# Altium schematic symbol library Tiresias_active.SchLib: 11 symbols
Pins are listed as number, name and electrical type; pins without a type are passive.

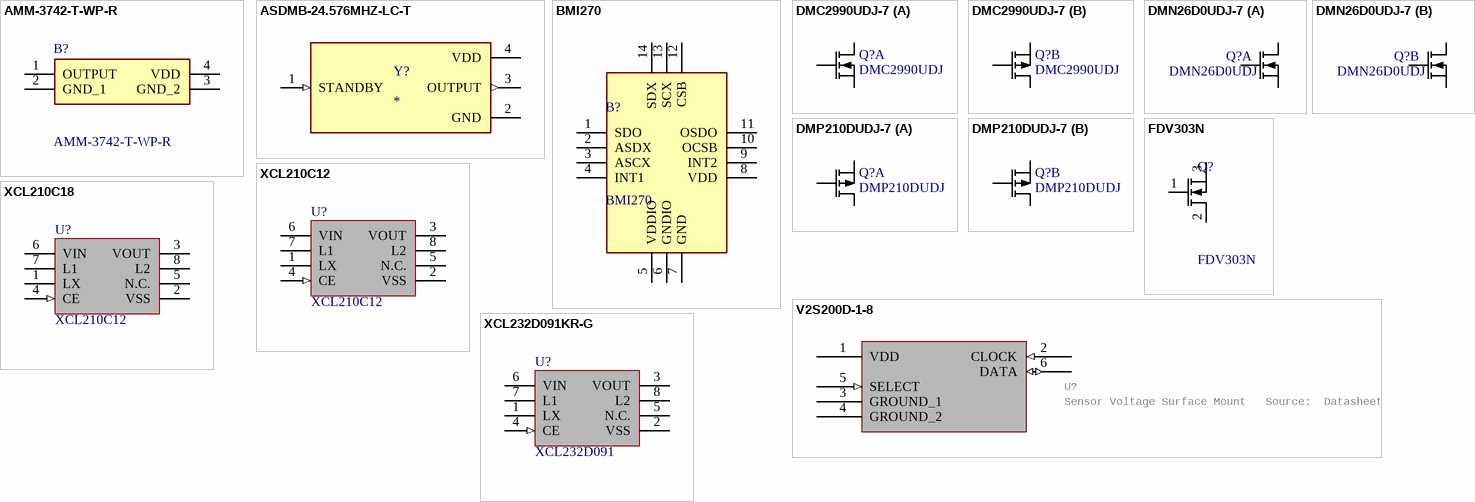
[diagram p0: symbols AMM-3742-T-WP-R to XCL232D091KR-G]

## AMM-3742-T-WP-R
designator B?
Microphones MICROPHONE -42 DB 2 VDC 200 UA 300 OHM,20 Hz ~ 20 kHz Analog Microphone MEMS (Silicon) 1.5 V ~ 3.6 V Omnidirectional (-42dB +/-1dB) Solder Pads; Manufacturer_Name: PUI Audio; Geometry.Height: 1.3mm; Mouser Part Number: 665-AMM-3742-T-WP-R; Mouser Price/Stock: https://www.mouser.co.uk/ProductDetail/PUI-Audio/AMM-3742-T-WP-R?qs=iLbezkQI%252Bsjj6DcgQwGq9A%3D%3D; Manufacturer_Part_Number: AMM-3742-T-WP-R; Datasheet Link: https://www.puiaudio.com/media/SpecSheet/AMM-3742-T-WP-R.pdf
footprint AMM3742TWPR
pins: 1 OUTPUT, 2 GND_1, 3 GND_2, 4 VDD

## ASDMB-24.576MHZ-LC-T
designator Y?
MP: ASDMB-24.576MHZ-LC-T; Package: None; Price: None; Availability: Unavailable; Value: *
footprint XTAL_ASDMB-24.576MHZ-LC-T
pins: 1 STANDBY (in), 2 GND (power), 3 OUTPUT (out), 4 VDD (power)

## BMI270
designator B?
IMUs - Inertial Measurement Units Smart Ultra-Low Power Inertial Measurement Unit (IMU) for Wearable Applications; Manufacturer_Name: BOSCH; Geometry.Height: 0.87mm; Mouser Part Number: 262-BMI270; Mouser Price/Stock: https://www.mouser.co.uk/ProductDetail/Bosch-Sensortec/BMI270?qs=u16ybLDytRYIj%252BjQEee88A%3D%3D; Manufacturer_Part_Number: BMI270; Datasheet Link: https://www.bosch-sensortec.com/media/boschsensortec/downloads/datasheets/bst-bmi270-ds000.pdf
footprint BMI270
pins: 1 SDO, 2 ASDX, 3 ASCX, 4 INT1, 5 VDDIO, 6 GNDIO, 7 GND, 8 VDD, 9 INT2, 10 OCSB, 11 OSDO, 12 CSB, 13 SCX, 14 SDX

## DMC2990UDJ-7
designator Q?, comment DMC2990UDJ
MOSFET, Dual N and P-Channel, 20V, 450mA/310mA, 990mOhm, 350mW; Part Number: DMC2990UDJ-7; Manufacturer: Diodes Incorporated; Part number IPS: 00000004489; Note: N.A.; Pad Count: 6; Manufacturer Part Number: DMC2990UDJ-7; Footprint Doc: SOT-963; LatestRevisionDate: 2020-04-28; Published: 2020-02-21; Value: DMC2990UDJ; Artikkelnr Noca: N.A.; Supplier 1: Digi-Key; Supplier Part Number 1: DMC2990UDJ-7DICT-ND; Supplier 2: N.A.; Supplier Part Number 2: N.A.; ComponentLink1URL: https://www.diodes.com/assets/Datasheets/DMC2990UDJ.pdf; ComponentLink1Description: Datasheet; ComponentLink2URL: N.A.; ComponentLink2Description: Supplier link; HelpURL: N.A.; Component Class: Semiconductors; PartId: 101300174; Author: rsk; Part number Norautron: N.A.
footprint SOTFL35P100X50-6N
part A pins: 1 S1, 2 G1, 6 D1
part B pins: 3 D2, 4 S2, 5 G2

## DMN26D0UDJ-7
designator Q?, comment DMN26D0UDJ
MOSFET, Dual N-Channel, 20V, 240mA, 1050mOhm, 300mW; Part Number: DMN26D0UDJ-7; Manufacturer: Diodes Incorporated; Note: N.A.; Pad Count: 6; Manufacturer Part Number: DMN26D0UDJ-7; LatestRevisionDate: 2021-06-03; Published: 2021-06-03; Value: DMN26D0UDJ; Artikkelnr Noca: N.A.; Footprint Doc: SOT-963; Part number IPS: N.A.; ComponentLink1URL: https://www.diodes.com/assets/Datasheets/ds31481.pdf; ComponentLink1Description: Datasheet; ComponentLink2URL: https://www.digikey.com/en/products/detail/diodes-incorporated/DMN26D0UDJ-7/2346781; ComponentLink2Description: Supplier link; HelpURL: https://www.diodes.com/part/view/DMN26D0UDJ; Supplier 1: Digi-Key; Supplier Part Number 1: DMN26D0UDJ-7DICT-ND; Supplier 2: N.A.; Supplier Part Number 2: N.A.; Component Class: Semiconductors; PartId: 101300183; Author: rubr; Part number Norautron: N.A.
footprint SOTFL35P100X50-6N
part A pins: 1 S1, 2 G1, 6 D1
part B pins: 3 D2, 4 S2, 5 G2

## DMP210DUDJ-7
designator Q?, comment DMP210DUDJ
MOSFET, Dual P-Channel, 20V, 200mA, 5.5Ohm, 330mW; Part Number: DMP210DUDJ-7; Manufacturer: Diodes Incorporated; Note: N.A.; Pad Count: 6; Manufacturer Part Number: DMP210DUDJ-7; LatestRevisionDate: 2020-05-19; Published: 2020-05-19; Value: DMP210DUDJ; Artikkelnr Noca: N.A.; Footprint Doc: SOT-963; Part number IPS: N.A.; ComponentLink1URL: https://www.diodes.com/assets/Datasheets/ds31494.pdf; ComponentLink1Description: Datasheet; ComponentLink2URL: https://www.digikey.com/product-detail/en/diodes-incorporated/DMP210DUDJ-7/DMP210DUDJ-7DICT-ND/5218406; ComponentLink2Description: Supplier link; HelpURL: N.A.; Supplier 1: Digi-Key; Supplier Part Number 1: DMP210DUDJ-7DICT-ND; Supplier 2: N.A.; Supplier Part Number 2: N.A.; Component Class: Semiconductors; PartId: 101300178; Author: rsk; Part number Norautron: N.A.
footprint SOTFL35P100X50-6N
part A pins: 1 S1, 2 G1, 6 D1
part B pins: 3 D2, 4 S2, 5 G2

## FDV303N
designator Q?
FDV303N N-Channel MOSFET, 680 mA, 25 V, 3-Pin SOT-23 ON Semiconductor; Manufacturer_Name: onsemi; Geometry.Height: 1.11mm; Mouser Part Number: 512-FDV303N; Mouser Price/Stock: https://www.mouser.co.uk/ProductDetail/onsemi-Fairchild/FDV303N?qs=FOlmdCx%252BAA1IyXspysHTkA%3D%3D; Manufacturer_Part_Number: FDV303N; Datasheet Link: https://www.onsemi.com/pub/Collateral/FDV303N-D.PDF
footprint SOT96P237X111-3N
pins: 1 G, 2 S, 3 D

## V2S200D-1-8
designator U?, comment Sensor Voltage Surface Mount   Source:  Datasheet
Part Number: V2S200D-1-8; Manufacturer_Name: Knowles; GateName_1: G$1; LibraryName: V2S200D-1-8; DeviceSetName: V2S200D-1-8; Package: V2S200D18; Mouser_Part_Number: 721-V2S200D-1-8; Mouser_Price-Stock: https://www.mouser.co.uk/ProductDetail/Knowles/V2S200D-1-8?qs=ulEaXIWI0c83wNc0KwH8Ig%3D%3D; Manufacturer_Part_Number: V2S200D-1-8; Height: 1.03mm
footprint V2S200D18
pins: 1 VDD (power), 2 CLOCK (in), 3 GROUND_1 (power), 4 GROUND_2 (power), 5 SELECT (in), 6 DATA (io)

## XCL210C12
designator U?
1.2V, 200mA Inductor Built-in Step-Down “micro DC/DC” Converter; Manufacturer: Torex Semiconductor; Manufacturer Part Number: XCL210C121GR-G; Note: N.A.; Pad Count: 8; Part Number: XCL210C12; Footprint Doc: CL-2025; LatestRevisionDate: 2021-04-22; Published: 2021-04-22; Value: XCL210C12; Artikkelnr Noca: N.A.; Part number IPS: N.A.; ComponentLink1URL: https://www.torexsemi.com/file/xcl210/XCL210.pdf; ComponentLink1Description: Datasheet; ComponentLink2URL: https://www.digikey.com/en/products/detail/torex-semiconductor-ltd/XCL210C121GR-G/5964723; ComponentLink2Description: Supplier link; HelpURL: https://www.torexsemi.com/products/built-in-dcdc-converters/series/?name=xcl210; Supplier 1: Digi-Key; Supplier Part Number 1: 893-1249-1-ND; Supplier 2: Mouser; Supplier Part Number 2: 865-XCL210C121GR-G; Component Class: Misc_ICs; Author: rubr; Part number Norautron: N.A.; PartId: 101900655; Mouser Link: https://au.mouser.com/ProductDetail/Torex-Semiconductor/XCL210D201GR-G?qs=AsjdqWjXhJ%252Bfq4YmN5RHyA%3D%3D&_gl=1*8wexd*_ga*MTYyMjg1NzA0OC4xNzEzODc4NTc0*_ga_15W4STQT4T*MTcxMzk3OTMxMS4zLjAuMTcxMzk3OTMxMi41OS4wLjA.; Digikey Link: https://www.digikey.com/en/products/detail/torex-semiconductor-ltd/XCL210D201GR-G/10148097?s=N4IgTCBcDaIBoGEAyYCMAGAImdqDiASgLR4gC6AvkA
footprint CL-2025
pins: 1 LX, 2 VSS (power), 3 VOUT (power), 4 CE (in), 5 N.C., 6 VIN (power), 7 L1, 8 L2, 9 VSS (power) hidden to GND

## XCL210C18
designator U?, comment XCL210C12
1.8V, 200mA Inductor Built-in Step-Down “micro DC/DC” Converter; Manufacturer: Torex Semiconductor; Manufacturer Part Number: XCL210C121GR-G; Note: N.A.; Pad Count: 8; Part Number: XCL210C12; Footprint Doc: CL-2025; LatestRevisionDate: 2021-04-22; Published: 2021-04-22; Value: XCL210C12; Artikkelnr Noca: N.A.; Part number IPS: N.A.; ComponentLink1URL: https://www.torexsemi.com/file/xcl210/XCL210.pdf; ComponentLink1Description: Datasheet; ComponentLink2URL: https://www.digikey.com/en/products/detail/torex-semiconductor-ltd/XCL210C121GR-G/5964723; ComponentLink2Description: Supplier link; HelpURL: https://www.torexsemi.com/products/built-in-dcdc-converters/series/?name=xcl210; Supplier 1: Digi-Key; Supplier Part Number 1: 893-1249-1-ND; Supplier 2: Mouser; Supplier Part Number 2: 865-XCL210C121GR-G; Component Class: Misc_ICs; Author: rubr; Part number Norautron: N.A.; PartId: 101900655; Mouser Link: https://au.mouser.com/ProductDetail/Torex-Semiconductor/XCL210D201GR-G?qs=AsjdqWjXhJ%252Bfq4YmN5RHyA%3D%3D&_gl=1*8wexd*_ga*MTYyMjg1NzA0OC4xNzEzODc4NTc0*_ga_15W4STQT4T*MTcxMzk3OTMxMS4zLjAuMTcxMzk3OTMxMi41OS4wLjA.; Digikey Link: https://www.digikey.com/en/products/detail/torex-semiconductor-ltd/XCL210D201GR-G/10148097?s=N4IgTCBcDaIBoGEAyYCMAGAImdqDiASgLR4gC6AvkA
footprint CL-2025
pins: 1 LX, 2 VSS (power), 3 VOUT (power), 4 CE (in), 5 N.C., 6 VIN (power), 7 L1, 8 L2, 9 VSS (power) hidden to GND

## XCL232D091KR-G
designator U?, comment XCL232D091
0.9V Ultra-Low Quiescent Current, Inductor Built-in Step-Down DC/DC Converter, CL-2025-03   Source:  Datasheet; Part Number: XCL210C12; Manufacturer: Torex Semiconductor; Manufacturer Part Number: XCL210C121GR-G; Note: N.A.; Pad Count: 8; Footprint Doc: CL-2025; LatestRevisionDate: 2021-04-22; Published: 2021-04-22; Value: XCL232D091; Artikkelnr Noca: N.A.; Part number IPS: N.A.; ComponentLink1URL: https://www.torexsemi.com/file/xcl210/XCL210.pdf; ComponentLink1Description: Datasheet; ComponentLink2URL: https://www.digikey.com/en/products/detail/torex-semiconductor-ltd/XCL210C121GR-G/5964723; ComponentLink2Description: Supplier link; HelpURL: https://www.torexsemi.com/products/built-in-dcdc-converters/series/?name=xcl210; Supplier 1: Digi-Key; Supplier Part Number 1: 893-1249-1-ND; Supplier 2: Mouser; Supplier Part Number 2: 865-XCL210C121GR-G; Component Class: Misc_ICs; Author: rubr; Part number Norautron: N.A.; PartId: 101900655; Mouser Link: https://au.mouser.com/ProductDetail/Torex-Semiconductor/XCL210D201GR-G?qs=AsjdqWjXhJ%252Bfq4YmN5RHyA%3D%3D&_gl=1*8wexd*_ga*MTYyMjg1NzA0OC4xNzEzODc4NTc0*_ga_15W4STQT4T*MTcxMzk3OTMxMS4zLjAuMTcxMzk3OTMxMi41OS4wLjA.; Digikey Link: https://www.digikey.com/en/products/detail/torex-semiconductor-ltd/XCL210D201GR-G/10148097?s=N4IgTCBcDaIBoGEAyYCMAGAImdqDiASgLR4gC6AvkA
footprint CL-2025
pins: 1 LX, 2 VSS (power), 3 VOUT (power), 4 CE (in), 5 N.C., 6 VIN (power), 7 L1, 8 L2, 9 VSS (power) hidden to GND